# EAGLE library part BQ76PL455A (library bq76pl455a)
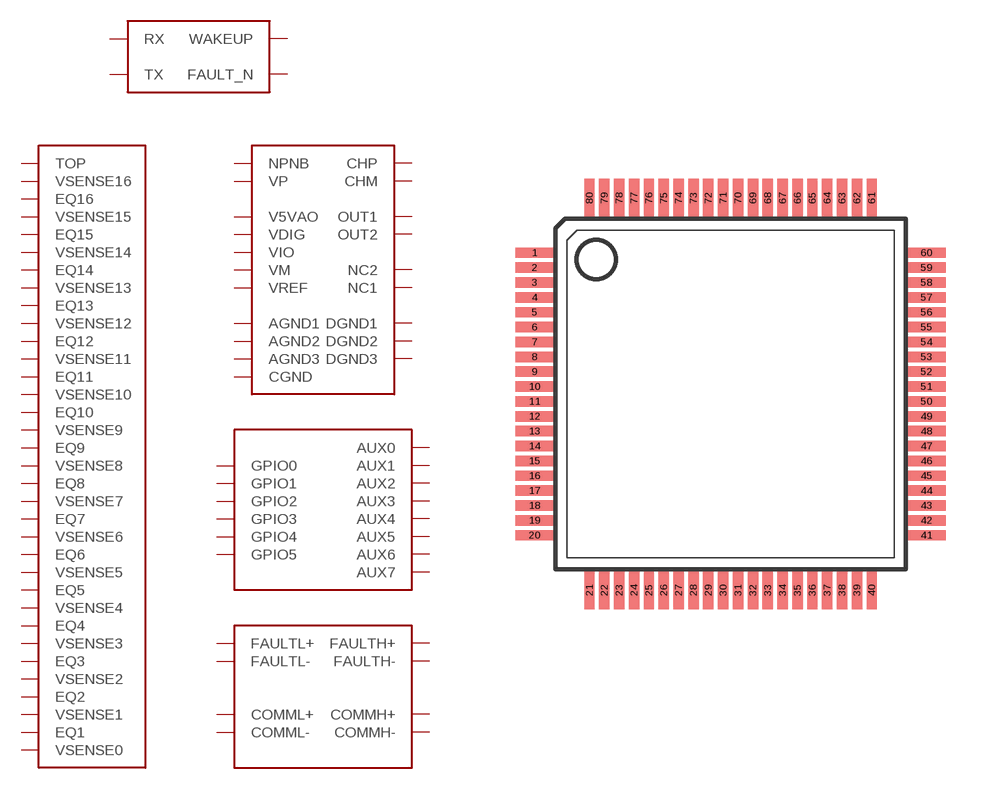
[diagram p0: symbol with the pads of TQFP80; footprint TQFP80]

Designator prefix -; gates G$1=BQ76PL455A_POWER G$2=BQ76PL455A_AUX_GPIO G$3=BQ76PL455A_CELLS G$4=BQ76PL455A_COMMS G$5=BQ76PL455A_DIFF_COMMS

## BQ76PL455A  [TQFP80]
1  G$3:VSENSE14
2  G$3:EQ14
3  G$3:VSENSE13
4  G$3:EQ13
5  G$3:VSENSE12
6  G$3:EQ12
7  G$3:VSENSE11
8  G$3:EQ11
9  G$3:VSENSE10
10  G$3:EQ10
11  G$3:VSENSE9
12  G$3:EQ9
13  G$3:VSENSE8
14  G$3:EQ8
15  G$3:VSENSE7
16  G$3:EQ7
17  G$3:VSENSE6
18  G$3:EQ6
19  G$3:VSENSE5
20  G$3:EQ5
21  G$3:VSENSE4
22  G$3:EQ4
23  G$3:VSENSE3
24  G$3:EQ3
25  G$3:VSENSE2
26  G$3:EQ2
27  G$3:VSENSE1
28  G$3:EQ1
29  G$3:VSENSE0
30  G$1:DGND1
31  G$1:VM
32  G$1:CHP
33  G$1:CHM
34  G$1:VDIG
35  G$1:DGND2
36  G$1:NC1
37  G$1:DGND3
38  G$4:TX
39  G$4:RX
40  G$4:FAULT_N
41  G$1:VIO
42  G$2:GPIO5
43  G$2:GPIO4
44  G$2:GPIO3
45  G$2:GPIO2
46  G$2:GPIO1
47  G$2:GPIO0
48  G$1:CGND
49  G$4:WAKEUP
50  G$5:FAULTL+
51  G$5:FAULTL-
52  G$5:COMML+
53  G$5:COMML-
54  G$5:COMMH-
55  G$5:COMMH+
56  G$5:FAULTH-
57  G$5:FAULTH+
58  G$1:V5VAO
59  G$2:AUX7
60  G$2:AUX6
61  G$2:AUX5
62  G$2:AUX4
63  G$2:AUX3
64  G$2:AUX2
65  G$2:AUX1
66  G$2:AUX0
67  G$1:VREF
68  G$1:OUT2
69  G$1:AGND3
70  G$1:VP
71  G$1:NPNB
72  G$1:AGND2
73  G$1:OUT1
74  G$1:AGND1
75  G$1:NC2
76  G$3:TOP
77  G$3:VSENSE16
78  G$3:EQ16
79  G$3:VSENSE15
80  G$3:EQ15

## Footprint TQFP80 (pad centres in mm)
Thin Quad Flat Pack
smd 1.3 x 0.35: 1 -6.595,4.75; 2 -6.595,4.25; 3 -6.595,3.75; 4 -6.595,3.25; 5 -6.595,2.75; 6 -6.595,2.25; 7 -6.595,1.75; 8 -6.595,1.25; 9 -6.595,0.75; 10 -6.595,0.25; 11 -6.595,-0.25; 12 -6.595,-0.75; 13 -6.595,-1.25; 14 -6.595,-1.75; 15 -6.595,-2.25; 16 -6.595,-2.75; 17 -6.595,-3.25; 18 -6.595,-3.75; 19 -6.595,-4.25; 20 -6.595,-4.75; 41 6.595,-4.75; 42 6.595,-4.25; 43 6.595,-3.75; 44 6.595,-3.25; 45 6.595,-2.75; 46 6.595,-2.25; 47 6.595,-1.75; 48 6.595,-1.25; 49 6.595,-0.75; 50 6.595,-0.25; 51 6.595,0.25; 52 6.595,0.75; 53 6.595,1.25; 54 6.595,1.75; 55 6.595,2.25; 56 6.595,2.75; 57 6.595,3.25; 58 6.595,3.75; 59 6.595,4.25; 60 6.595,4.75
smd 0.35 x 1.3: 21 -4.75,-6.595; 22 -4.25,-6.595; 23 -3.75,-6.595; 24 -3.25,-6.595; 25 -2.75,-6.595; 26 -2.25,-6.595; 27 -1.75,-6.595; 28 -1.25,-6.595; 29 -0.75,-6.595; 30 -0.25,-6.595; 31 0.25,-6.595; 32 0.75,-6.595; 33 1.25,-6.595; 34 1.75,-6.595; 35 2.25,-6.595; 36 2.75,-6.595; 37 3.25,-6.595; 38 3.75,-6.595; 39 4.25,-6.595; 40 4.75,-6.595; 61 4.75,6.595; 62 4.25,6.595; 63 3.75,6.595; 64 3.25,6.595; 65 2.75,6.595; 66 2.25,6.595; 67 1.75,6.595; 68 1.25,6.595; 69 0.75,6.595; 70 0.25,6.595; 71 -0.25,6.595; 72 -0.75,6.595; 73 -1.25,6.595; 74 -1.75,6.595; 75 -2.25,6.595; 76 -2.75,6.595; 77 -3.25,6.595; 78 -3.75,6.595; 79 -4.25,6.595; 80 -4.75,6.595